# Altium footprint library USB.PcbLib: 54 footprints (part 3 of 4)
Each footprint in its own frame and in the unit in brackets; x right, y up, seen from the top. Pads: shape width x height; smd on the part's side, far side on the other; paste and mask are expansions set on the pad; w line width, h text height; cw(c..) or ccw(c..) is an arc to the next point about the centre after c.
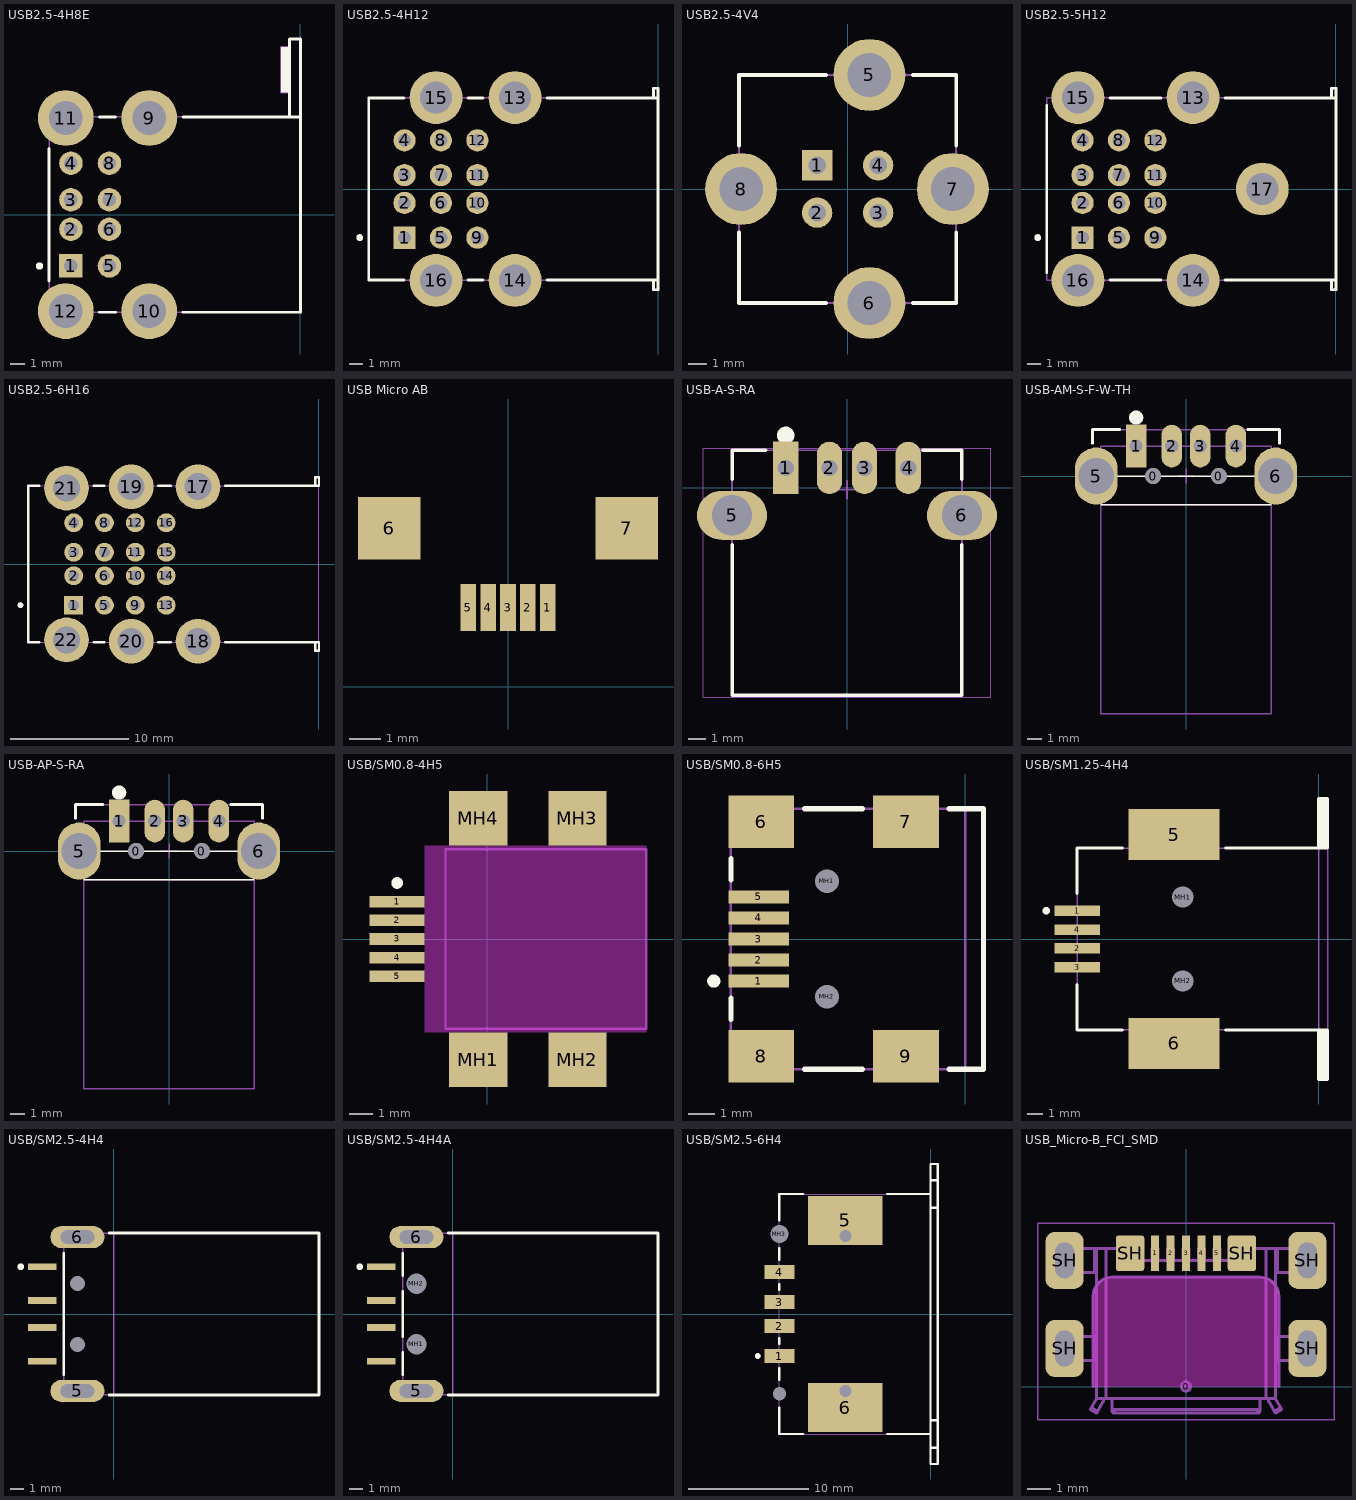
[diagram p2: the footprints below, top view; thin cyan lines are the x and y axes]

## USB2.5-4H8E [mm] "Connector; USB1.1, Type A, Thru-Hole; 4x4 Position; Right Angle"
height 15.47
pads (12):
  rect 1.6x1.6 hole 0.92: 1(-15.61,-3.5)
  round 1.6 hole 0.92: 2(-15.61,-1) 3(-15.61,1) 4(-15.61,3.5) 5(-12.99,-3.5) 6(-12.99,-1) 7(-12.99,1) 8(-12.99,3.5)
  round 3.8 hole 2.3: 9(-10.28,6.57) 10(-10.28,-6.57) 11(-15.96,6.57) 12(-15.96,-6.57)
Top Overlay:
  circle w0.25: c-17.75,-3.5 r0.125
  rectangle: -1.33,8.3 -0.75,11.42
  lines w0.2: -17.1,-4.51 -17.1,4.51 ; -13.68,-6.65 -12.58,-6.65 ; -13.66,6.65 -12.58,6.65 ; -7.97,-6.65 0,-6.65 0,6.65 ; -7.97,6.65 0,6.65 ; -0.75,6.65 -0.75,11.95 0,11.95 0,6.65
Mechanical 13:
  lines w0.1: -0.75,8.3 -1.33,8.3 -1.33,11.42 -0.75,11.42 ; -17.1,-6.65 -17.1,6.65 -0.75,6.65 -0.75,11.95 0,11.95 0,-6.65 -17.1,-6.65
3D body: height 15.47, standoff 0, extent -1.329,8.301 -0.751,11.419
3D body: height 15.47, standoff 0, extent -17.099,-6.649 -0.001,11.949

## USB2.5-4H12 [mm] "Connector; USB1.1, Type A, Thru-Hole; 4x4x4 Position; Right Angle"
height 23.9
pads (16):
  rect 1.6x1.6 hole 0.92: 1(-18.23,-3.5)
  round 1.6 hole 0.92: 2(-18.23,-1) 3(-18.23,1) 4(-18.23,3.5) 5(-15.61,-3.5) 6(-15.61,-1) 7(-15.61,1) 8(-15.61,3.5) 9(-12.99,-3.5) 10(-12.99,-1) 11(-12.99,1) 12(-12.99,3.5)
  round 3.8 hole 2.3: 13(-10.28,6.57) 14(-10.28,-6.57) 15(-15.96,6.57) 16(-15.96,-6.57)
Top Overlay:
  circle w0.25: c-21.45,-3.5 r0.125
  lines w0.2: -18.26,-6.55 -20.8,-6.55 -20.8,6.55 -18.26,6.55 ; -13.66,-6.55 -12.58,-6.55 ; -13.66,6.55 -12.58,6.55 ; -7.98,-6.55 0,-6.55 ; -7.98,6.55 0,6.55 ; -0.32,-6.55 -0.32,-7.25 0,-7.25 0,-6.55 ; -0.32,6.55 -0.32,7.25 0,7.25 0,6.55 ; 0,-6.55 0,6.55
Mechanical 13:
  lines w0.1: -20.8,-6.55 -20.8,6.55 -0.32,6.55 -0.32,7.25 0,7.25 0,-7.25 -0.32,-7.25 -0.32,-6.55 -20.8,-6.55
3D body: height 23.9, standoff 0, extent -20.799,-7.249 -0.001,7.249

## USB2.5-4V4 [mm] "Connector; USB1.1, Type B, Thru-Hole; 4 Position; Vertical"
height 15.62
pads (8):
  rect 1.6x1.6 hole 0.92: 1(-1.61,1.25)
  round 1.6 hole 0.92: 2(-1.61,-1.25) 3(1.61,-1.25) 4(1.61,1.25)
  round 3.8 hole 2.3: 5(1.15,6.02) 6(1.15,-6.02) 7(5.56,0) 8(-5.63,0)
Top Overlay:
  lines w0.2: -5.73,-2.3 -5.73,-6.02 -1.15,-6.02 ; -5.73,2.3 -5.73,6.02 -1.15,6.02 ; 3.45,-6.02 5.73,-6.02 5.73,-2.3 ; 3.45,6.02 5.73,6.02 5.73,2.3
Mechanical 13:
  lines w0.1: -5.73,-6.02 5.73,-6.02 5.73,6.02 -5.73,6.02 -5.73,-6.02
3D body: height 15.62, standoff 0, extent -5.73,-6.02 5.73,6.02

## USB2.5-5H12 [mm] "Connector; USB1.1, Type A, Thru-Hole; 4x4x4 Position; Right Angle"
height 23.9
pads (17):
  rect 1.6x1.6 hole 0.92: 1(-18.23,-3.5)
  round 1.6 hole 0.92: 2(-18.23,-1) 3(-18.23,1) 4(-18.23,3.5) 5(-15.61,-3.5) 6(-15.61,-1) 7(-15.61,1) 8(-15.61,3.5) 9(-12.99,-3.5) 10(-12.99,-1) 11(-12.99,1) 12(-12.99,3.5)
  round 3.8 hole 2.3: 13(-10.28,6.57) 14(-10.28,-6.57) 15(-18.56,6.57) 16(-18.56,-6.57) 17(-5.3,0)
Top Overlay:
  circle w0.25: c-21.45,-3.5 r0.125
  lines w0.2: -20.8,-6.03 -20.8,6.03 ; -16.26,-6.55 -12.58,-6.55 ; -16.26,6.55 -12.58,6.55 ; -7.98,-6.55 0,-6.55 ; -7.98,6.55 0,6.55 ; -0.32,-6.55 -0.32,-7.25 0,-7.25 0,-6.55 ; -0.32,6.55 -0.32,7.25 0,7.25 0,6.55 ; 0,-6.55 0,6.55
Mechanical 13:
  lines w0.1: -0.32,-7.25 -0.32,-6.55 -20.8,-6.55 -20.8,6.55 -0.32,6.55 -0.32,7.25 ; 0,-7.25 0,7.25
  lines w0.2: -0.32,-7.25 0,-7.25 ; -0.32,7.25 0,7.25
3D body: height 23.9, standoff 0, extent -20.799,-7.249 -0.001,7.249

## USB2.5-6H16 [mm] "Connector; USB1.1, Type A, Thru-Hole; 4x4x4x4 Position; Right Angle"
height 32.84
pads (22):
  rect 1.6x1.6 hole 0.92: 1(-20.85,-3.5)
  round 1.6 hole 0.92: 2(-20.85,-1) 3(-20.85,1) 4(-20.85,3.5) 5(-18.23,-3.5) 6(-18.23,-1) 7(-18.23,1) 8(-18.23,3.5) 9(-15.61,-3.5) 10(-15.61,-1) 11(-15.61,1) 12(-15.61,3.5) 13(-12.99,-3.5) 14(-12.99,-1) 15(-12.99,1) 16(-12.99,3.5)
  round 3.8 hole 2.3: 17(-10.28,6.57) 18(-10.28,-6.57) 19(-15.96,6.57) 20(-15.96,-6.57) 21(-21.46,6.45) 22(-21.46,-6.45)
Top Overlay:
  circle w0.25: c-25.37,-3.5 r0.125
  lines w0.2: -23.76,-6.65 -24.72,-6.65 -24.72,6.65 -23.76,6.65 ; -19.16,-6.65 -18.26,-6.65 ; -19.16,6.65 -18.26,6.65 ; -13.66,-6.65 -12.58,-6.65 ; -13.66,6.65 -12.58,6.65 ; -7.98,-6.65 0,-6.65 0,-7.37 -0.32,-7.37 -0.32,-6.65 ; -7.98,6.65 0,6.65 0,7.37 -0.32,7.37 -0.32,6.65
Mechanical 1:
  lines w0.1: 0,-6.65 0,6.65
  text "PCB Edge" at -0.258,-6.292 h0.2
Mechanical 13:
  lines w0.1: -0.32,-7.37 -0.32,-6.65 -24.72,-6.65 -24.72,6.65 -0.32,6.65 -0.32,7.37 ; 0,-7.37 0,7.37
  lines w0.2: -0.32,-7.37 0,-7.37 ; -0.32,7.37 0,7.37
3D body: height 32.84, standoff 0, extent -24.719,-7.369 -0.001,7.369

## USB Micro AB [mm]
pads (7):
  rect 0.5x1.5 smd: 1(1.27,2.54) 2(0.635,2.54) 3(0,2.54) 4(-0.635,2.54) 5(-1.27,2.54)
  rect 2x2 smd: 6(-3.81,5.08) 7(3.81,5.08)
3D body "User Library-10104111.step": height 2.79, standoff -0.28, extent -4.4,2.301 4.4,7.927

## USB-A-S-RA [mm]
pads (6):
  rect 1.45x3 hole 0.92: 1(-3.5,1.144)
  oval 1.45x3 hole 0.92: 2(-1,1.144) 3(1,1.144) 4(3.5,1.144)
  oval 4x2.8 hole 2.3: 5(-6.57,-1.566) 6(6.57,-1.566)
Top Overlay:
  circle w0.5: c-3.5,3.004 r0.25
  lines w0.2: -6.565,-3.25 -6.565,-11.846 6.565,-11.846 6.565,-3.25 ; -6.565,0.5 -6.565,2.154 -4.65,2.154 ; 4.33,2.154 6.565,2.154 6.565,0.5
Mechanical 13:
  lines w0.1: -6.565,-11.846 6.565,-11.846 6.565,2.154 -6.565,2.154 -6.565,-11.846
Mechanical 15:
  lines w0.05: -8.216,-11.946 -8.216,2.254 8.216,2.254 8.216,-11.946 -8.216,-11.946
  lines w0.1: -0.5,-0.105 0.5,-0.105 ; 0,-0.605 0,0.395
3D body "c-292303-1-e3-3d.stp": height 7.01, standoff -3.54, extent -8.116,-11.846 8.116,2.154

## USB-AM-S-F-W-TH [mm]
pads (8):
  round 1.12 hole 1.12 unplated: 0(-2.3,0) 0(2.3,0)
  rect 1.45x3 hole 0.92: 1(-3.5,2.1)
  oval 1.45x3 hole 0.92: 2(-1,2.1) 3(1,2.1) 4(3.5,2.1)
  oval 3x4 hole 2.52: 5(-6.3,0) 6(6.3,0)
Top Overlay:
  circle w0.5: c-3.5,4.104 r0.25
  lines w0.1: -6.3,0 6.3,0 ; -6,-2 0,-2 6,-2
  lines w0.2: -6.565,2.3 -6.565,3.254 -4.65,3.254 ; 4.33,3.254 6.565,3.254 6.565,2.3
Mechanical 1:
  lines w0.1: -6,-2 6,-2 6,-16.7 ; -6,-16.7 -6,2.1 ; -6,-16.7 6,-16.7 ; -6,-16.7 6,-16.7 ; -6,-16.7 -6,2.1 ; -6,2.1 6,2.1 ; -6,2.1 6,2.1 ; 6,-16.7 6,2.1 ; 6,-16.7 6,2.1
Mechanical 13:
  lines w0.1: -6.565,3.254 6.565,3.254
Mechanical 15:
  lines w0.1: -0.5,0 0.5,0 ; 0,-0.5 0,0.5
3D body: height 4.5, standoff 0, extent -6,-16.7 6,2.1

## USB-AP-S-RA [mm]
pads (8):
  round 1.12 hole 1.12 unplated: 0(-2.3,0) 0(2.3,0)
  rect 1.45x3 hole 0.92: 1(-3.5,2.1)
  oval 1.45x3 hole 0.92: 2(-1,2.1) 3(1,2.1) 4(3.5,2.1)
  oval 3x4 hole 2.52: 5(-6.3,0) 6(6.3,0)
Top Overlay:
  circle w0.5: c-3.5,4.104 r0.25
  lines w0.1: -6.3,0 6.3,0 ; -6,-2 0,-2 6,-2
  lines w0.2: -6.565,2.3 -6.565,3.254 -4.65,3.254 ; 4.33,3.254 6.565,3.254 6.565,2.3
Mechanical 1:
  lines w0.1: -6,-2 6,-2 6,-16.7 ; -6,-16.7 -6,2.1 ; -6,-16.7 6,-16.7 ; -6,-16.7 6,-16.7 ; -6,-16.7 -6,2.1 ; -6,2.1 6,2.1 ; -6,2.1 6,2.1 ; 6,-16.7 6,2.1 ; 6,-16.7 6,2.1
Mechanical 13:
  lines w0.1: -6.565,3.254 6.565,3.254
Mechanical 15:
  lines w0.1: -0.5,0 0.5,0 ; 0,-0.5 0,0.5
3D body: height 4.5, standoff 0, extent -6,-16.7 6,2.1

## USB/SM0.8-4H5 [mm] "Connector; USB Mini-B, Sinking Type, SM; 5 Position; Right Angle"
height 0.65
pads (9):
  rect 2.35x0.5 smd: 1(-3.862,1.6) 2(-3.862,0.8) 3(-3.862,0) 4(-3.862,-0.8) 5(-3.862,-1.6)
  rect 2.5x2.35 smd: MH1(-0.387,-5.175) MH2(3.863,-5.175) MH3(3.863,5.175) MH4(-0.387,5.175)
Top Overlay:
  circle w0.25: c-3.862,2.4 r0.125
Keep-Out Layer:
  rectangle: -2.687,-4 6.813,4
Mechanical 13:
  lines w0.1: -1.788,-3.85 6.813,-3.85 6.813,3.85 -1.788,3.85 -1.788,-3.85
3D body: height 0.65, standoff -3.25, extent -1.798,-3.838 6.801,3.861

## USB/SM0.8-6H5 [mm] "Connector; USB2.0, Type B, SM; 5 Position; Right Angle"
height 3.9
pads (11):
  rect 2.3x0.5 smd: 1(-7.85,-1.6) 2(-7.85,-0.8) 3(-7.85,0) 4(-7.85,0.8) 5(-7.85,1.6)
  rect 2.5x2 smd: 6(-7.75,4.45) 7(-2.25,4.45) 8(-7.75,-4.45) 9(-2.25,-4.45)
  round 0.6 hole 0.9 unplated: MH1(-5.25,2.2) MH2(-5.25,-2.2)
Top Overlay:
  circle w0.25: c-9.55,-1.6 r0.125
  lines w0.2: -8.9,-3.05 -8.9,-2.25 ; -8.9,2.25 -8.9,3.05 ; -6.1,-4.95 -3.9,-4.95 ; -6.1,4.95 -3.9,4.95 ; -0.6,-4.95 0.7,-4.95 0.7,4.95 -0.6,4.95
Mechanical 1:
  lines w0.1: 0,-4.95 0,4.95
  text "PCB Edge" at 0.432,-4.036 h0.25
Mechanical 13:
  lines w0.1: -8.9,-4.95 0.7,-4.95 0.7,4.95 -8.9,4.95 -8.9,-4.95
3D body: height 3.9, standoff 0, extent -8.9,-4.95 0.7,4.95

## USB/SM1.25-4H4 [mm] "Connector; USB1.1, Type B, SM; 4 Position; Right Angle"
height 11
pads (8):
  rect 3x0.7 smd: 1(-16,1.875) 2(-16,-0.625) 3(-16,-1.875) 4(-16,0.625)
  rect 6.04x3.4 smd: 5(-9.58,6.92) 6(-9.58,-6.92)
  round 1.1 hole 1.4 unplated: MH1(-9,2.775) MH2(-9,-2.775)
Top Overlay:
  circle w0.25: c-18.05,1.875 r0.125
  rectangle: 0,6.02 0.6,9.32
  rectangle: 0,-9.32 0.6,-6.02
  lines w0.2: -16,-3 -16,-6.02 -13,-6.02 ; -16,3 -16,6.02 -13,6.02 ; -6.16,-6.02 0,-6.02 ; -6.16,6.02 0,6.02 ; 0,-6.02 0,-9.32 0.6,-9.32 0.6,-6.02 0,-6.02 ; 0,6.02 0,9.32 0.6,9.32 0.6,6.02 0,6.02
Mechanical 1:
  lines w0.1: 0,-6.02 0,6.02
  text "PCB Edge" at -0.219,-5.75 h0.25
Mechanical 13:
  lines w0.1: 0,-6.02 0,-9.32 0.6,-9.32 0.6,9.32 0,9.32 0,6.02 ; 0.6,-6.02 -16,-6.02 -16,6.02 0.6,6.02
3D body: height 11, standoff 0, extent -15.999,-6.019 0.599,6.019
3D body: height 11, standoff 0, extent 0.001,-9.319 0.599,-6.021
3D body: height 11, standoff 0, extent 0.001,6.021 0.599,9.319

## USB/SM2.5-4H4 [mm] "Connector; USB1.1, Type A, SM; 4 Position; Right Angle"
height 4.5
pads (8):
  rect 2.1x0.5 smd: 1(-5.3,3.5) 2(-5.3,1) 3(-5.3,-1) 4(-5.3,-3.5)
  oval 4x1.65 hole 1 slot 2.5 at 0 deg: 5(-2.7,-5.7) 6(-2.7,5.7)
  round 0.8 hole 1.1 unplated: MH1(-2.7,-2.25) MH2(-2.7,2.25)
Top Overlay:
  circle w0.25: c-6.9,3.5 r0.125
  lines w0.2: -3.7,-4.475 -3.7,4.475 ; -0.33,-6 15.2,-6 15.2,6 -0.33,6
Mechanical 1:
  lines w0.1: 0,-6 0,6
  text "PCB Edge" at 0.473,-5.173 h0.25
Mechanical 13:
  lines w0.1: -3.7,-6 15.2,-6 15.2,6 -3.7,6 -3.7,-6
3D body: height 4.5, standoff 0, extent -3.7,-6 15.2,6

## USB/SM2.5-4H4A [mm] "Connector; USB1.1, Type A, SM; 4 Position; Right Angle"
height 4.5
pads (8):
  rect 2.1x0.5 smd: 1(-5.3,3.5) 2(-5.3,1) 3(-5.3,-1) 4(-5.3,-3.5)
  oval 4x1.65 hole 1 slot 2.5 at 0 deg: 5(-2.7,-5.7) 6(-2.7,5.7)
  round 1.2 hole 1.5 unplated: MH1(-2.7,-2.25) MH2(-2.7,2.25)
Top Overlay:
  circle w0.25: c-6.9,3.5 r0.125
  lines w0.2: -3.7,-4.475 -3.7,-2.83 ; -3.7,-1.68 -3.7,1.68 ; -3.7,2.83 -3.7,4.475 ; -0.33,-6 15.2,-6 15.2,6 -0.33,6
Mechanical 1:
  lines w0.1: 0,-6 0,6
  text "PCB Edge" at 0.473,-5.173 h0.25
Mechanical 13:
  lines w0.1: -3.7,-6 -3.7,6 15.2,6 15.2,-6 -3.7,-6
3D body: height 4.5, standoff 0, extent -3.7,-6 15.2,6

## USB/SM2.5-6H4 [mm] "Connector; USB1.1, Type A, SM; 4 Position; Right Angle"
height 7.8
pads (10):
  rect 2.5x1.2 smd: 1(-12.6,-3.5) 2(-12.6,-1) 3(-12.6,1) 4(-12.6,3.5)
  rect 6.2x4.1 smd: 5(-7.1,7.8) 6(-7.1,-7.8)
  round 0.7 hole 1 unplated: MH1(-7.1,6.496) MH2(-7.1,-6.404)
  round 1.2 hole 1.5 unplated: MH3(-12.6,6.65)
  round 0.8 hole 1.1 unplated: MH4(-12.6,-6.65)
Top Overlay:
  circle w0.25: c-14.4,-3.5 r0.125
  lines w0.2: -12.6,-7.8 -12.6,-10 -10.6,-10 ; -12.6,-5.5 -12.6,-4.5 ; -12.6,-2.5 -12.6,-2 ; -12.6,2 -12.6,2.5 ; -12.6,4.5 -12.6,5.5 ; -12.6,7.8 -12.6,10 -10.6,10 ; -3.6,-10 0,-10 ; -3.6,10 0,10 ; 0,-11.15 0.576,-11.15 ; 0,-8.85 0.6,-8.85 ; 0,8.85 0.588,8.85 ; 0,11.15 0.588,11.15 ; 0,-12.5 0.6,-12.5 0.6,12.5 0,12.5 0,-12.5
Mechanical 13:
  lines w0.1: -12.6,-10 -12.6,10 0,10 0,12.5 0.6,12.5 0.6,-12.5 0,-12.5 0,-10 -12.6,-10
3D body: height 7.8, standoff 0, extent -12.599,-12.499 0.599,12.499

## USB_Micro-B_FCI_SMD [mm]
height 2.286
pads (12):
  round 0.508 on Mech15: 0(0,0)
  rrect20% 0.35x1.5 smd: 1(-1.3,5.6) 2(-0.65,5.6) 3(0,5.6) 4(0.65,5.6) 5(1.3,5.6)
  rrect50% 1.6x2.4 hole 0.8 slot 1.5 at 90 deg: SH(-5.1,1.6) SH(-5.1,5.3) SH(5.1,1.6) SH(5.1,5.3)
  rrect20% 1.2x1.5 smd: SH(-2.35,5.6) SH(2.35,5.6)
Top Solder:
  region: 1.905,4.826 1.905,6.35 -1.905,6.35 -1.905,4.826
Keep-Out Layer:
  board cut-out: -3.9,0 -3.9,3.797 -3.9,3.875 -3.869,4.03 -3.809,4.175 -3.721,4.307 -3.61,4.418 -3.479,4.505 -3.333,4.566 -3.179,4.597 -3.1,4.597 3.1,4.597 3.179,4.597 3.333,4.566 3.479,4.505 3.61,4.418 3.721,4.307 3.809,4.175 3.869,4.03 3.9,3.875 3.9,3.797 3.9,0
Mechanical 13:
  lines w0.127: -4.85,1.1 -4.85,2.1 ; -4.85,4.8 -4.85,5.8 ; -3.97,-0.881 -3.71,-1.031 ; -3.85,1.1 -3.85,2.1 ; -3.85,4.8 -3.85,5.8 ; -3.75,1.1 -5.25,1.1 -5.25,2.1 -3.75,2.1 ; -3.75,4.8 -5.25,4.8 -5.25,5.8 -2.577,5.8 cw(c-2.577,5.6) -2.443,5.748 -2.007,5.352 ccw(c-1.873,5.5) -1.873,5.3 1.873,5.3 ccw(c1.873,5.5) 2.007,5.352 2.443,5.748 cw(c2.577,5.6) 2.577,5.8 5.25,5.8 5.25,4.8 3.75,4.8 ; -3.75,5.8 -3.75,-0.5 ; -3.45,-0.5 cw(c-3.75,-0.501) -3.49,-0.651 -3.76,-1.118 -4.02,-0.968 -3.75,-0.5 ; -3.35,-0.5 -3.35,5.8 ; -3.1,-0.881 ccw(c-3.006,-0.874) -3,-0.968 ; -2.526,5.793 -2.526,5.8 ; -2.229,5.553 ccw(c-2.275,5.8) -2.024,5.8 -1.825,5.8 -1.825,5.3 ; -1.425,5.3 -1.425,5.8 -1.175,5.8 -1.175,5.3 ; -0.775,5.3 -0.775,5.8 -0.525,5.8 -0.525,5.3 ; -0.125,5.3 -0.125,5.8 0.125,5.8 0.125,5.3 ; 0.525,5.3 0.525,5.8 0.775,5.8 0.775,5.3 ; 1.175,5.3 1.175,5.8 1.425,5.8 1.425,5.3 ; 1.825,5.3 1.825,5.8 2.024,5.8 ccw(c2.275,5.8) 2.229,5.553 ; 2.526,5.793 2.526,5.8 ; 3.1,-0.881 cw(c3.006,-0.874) 3,-0.968 ; 3.35,-0.5 3.35,5.8 ; 3.45,-0.5 ccw(c3.75,-0.501) 3.49,-0.651 3.76,-1.118 4.02,-0.968 3.75,-0.5 ; 3.71,-1.031 3.97,-0.881 ; 3.75,1.1 5.25,1.1 5.25,2.1 3.75,2.1 ; 3.75,5.8 3.75,-0.5 ; 3.85,1.1 3.85,2.1 ; 3.85,4.8 3.85,5.8 ; 4.85,1.1 4.85,2.1 ; 4.85,4.8 4.85,5.8 ; -3.75,-0.5 -3.1,-0.5 ; -3.1,-0.5 3.1,-0.501 ; -3.1,-0.5 -3.1,-1.031 ccw(c-3.006,-1.024) -3,-1.118 ; -3,-1.118 3,-1.118 ; -3,-1.118 -3,-0.968 ; -3,-0.968 3,-0.968 ; 3,-1.118 ccw(c3.006,-1.024) 3.1,-1.031 3.1,-0.5 ; 3,-1.118 3,-0.968 ; 3.1,-0.5 3.75,-0.5
Mechanical 15:
  lines w0.076: -6.223,-1.397 -6.223,6.858 6.223,6.858 6.223,-1.397 -6.223,-1.397
  lines w0.127: -3.9,0 -3.9,3.797 cw(c-3.1,3.797) -3.1,4.597 3.1,4.597 cw(c3.1,3.797) 3.9,3.797 3.9,0
3D body "Micro USB B-type mid-mount FCI.STEP": height 2.15, standoff -0.92, extent -5.25,-1.118 5.25,5.8
3D body "USB Micro B plug.STEP": height 4.67, standoff -3.53, extent -5.35,-21.579 5.35,2.921